# Altium schematic symbol library Rover_Science_Card_V1.SchLib: 10 symbols
Pins are listed as number, name and electrical type; pins without a type are passive.

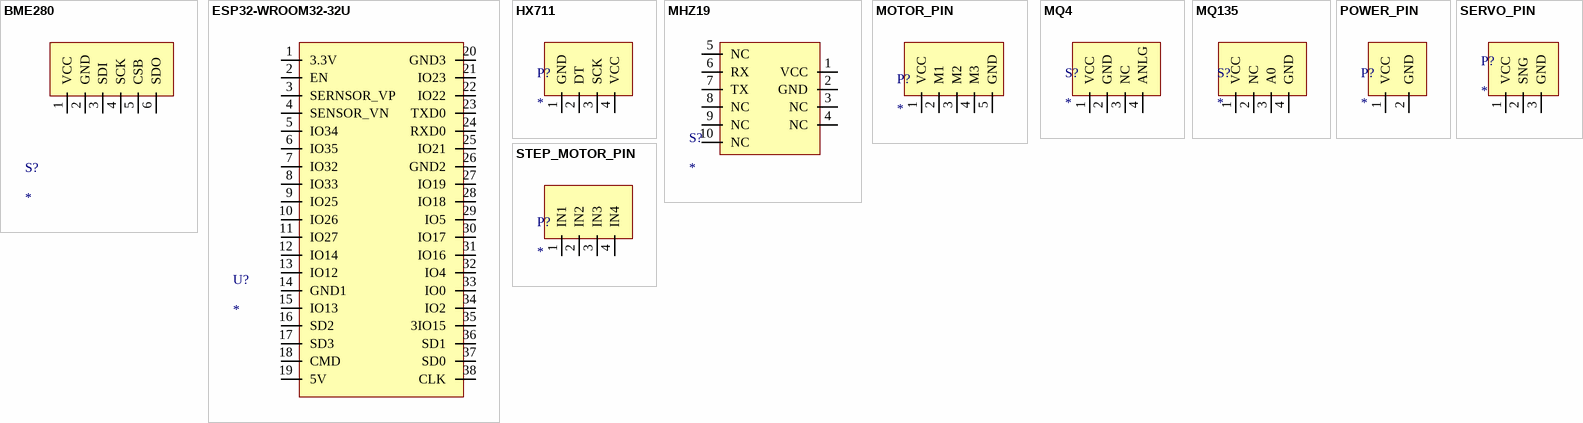
[diagram p0: symbols BME280 to STEP_MOTOR_PIN]

## BME280
designator S?
footprint BME280 (Temperature-Humidity-Altidute)
pins: 1 VCC, 2 GND, 3 SDI, 4 SCK, 5 CSB, 6 SDO

## ESP32-WROOM32-32U
designator U?
footprint ESP32-WROOM-32U (Microcontroller)
pins: 1 3.3V, 2 EN, 3 SERNSOR_VP, 4 SENSOR_VN, 5 IO34, 6 IO35, 7 IO32, 8 IO33, 9 IO25, 10 IO26, 11 IO27, 12 IO14, 13 IO12, 14 GND1, 15 IO13, 16 SD2, 17 SD3, 18 CMD, 19 5V, 20 GND3, 21 IO23, 22 IO22, 23 TXD0, 24 RXD0, 25 IO21, 26 GND2, 27 IO19, 28 IO18, 29 IO5, 30 IO17, 31 IO16, 32 IO4, 33 IO0, 34 IO2, 35 3IO15, 36 SD1, 37 SD0, 38 CLK

## HX711
designator P?
footprint HX711 (Load Cell Censor)
pins: 1 GND, 2 DT, 3 SCK, 4 VCC

## MHZ19
designator S?
footprint MHZ19 (CO2 Sensor)
pins: 1 VCC, 2 GND, 3 NC, 4 NC, 5 NC, 6 RX, 7 TX, 8 NC, 9 NC, 10 NC

## MOTOR_PIN
designator P?
footprint Motor_PIN
pins: 1 VCC, 2 M1, 3 M2, 4 M3, 5 GND

## MQ4
designator S?
footprint MQ4 (CH4 Sensor)
pins: 1 VCC, 2 GND, 3 NC, 4 ANLG

## MQ135
designator S?
footprint MQ135
pins: 1 VCC, 2 NC, 3 A0, 4 GND

## POWER_PIN
designator P?
footprint POWER (5V-GND)
pins: 1 VCC, 2 GND

## SERVO_PIN
designator P?
footprint Servo PIN
pins: 1 VCC, 2 SNG, 3 GND

## STEP_MOTOR_PIN
designator P?
footprint HX711 (Load Cell Censor)
pins: 1 IN1, 2 IN2, 3 IN3, 4 IN4